# EAGLE library part DS2484 (library Maxim Integrated)
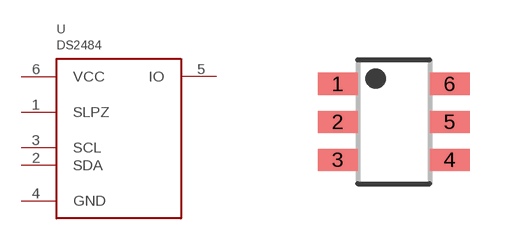
[diagram p1: symbol with the pads of SOT23-6; footprint SOT23-6]

Designator prefix U

## DS2484  [SOT23-6]
1  SLPZ
2  SDA
3  SCL
4  GND
5  IO
6  VCC

## Footprint SOT23-6 (pad centres in mm)
smd 1 x 0.55: 1 -1.4,0.95; 2 -1.4,0; 3 -1.4,-0.95; 4 1.4,-0.95; 5 1.4,0; 6 1.4,0.95